# Altium schematic symbol library relay_12_min.SchLib: 1 symbol
Pins are listed as number, name and electrical type; pins without a type are passive.

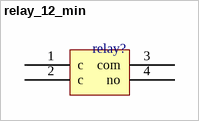
[diagram p0: symbol relay_12_min]

## relay_12_min
designator relay?, comment relay?  (value not drawn)
footprint Model Name (Footprint not found)
footprint relay_12_min
footprint relay_12_min
pins: 1 c, 2 c, 3 com, 4 no